# Altium footprint library Transformator.PcbLib: 59 footprints (part 3 of 4)
Each footprint in its own frame and in the unit in brackets; x right, y up, seen from the top. Pads: shape width x height; smd on the part's side, far side on the other; paste and mask are expansions set on the pad; w line width, h text height; cw(c..) or ccw(c..) is an arc to the next point about the centre after c.
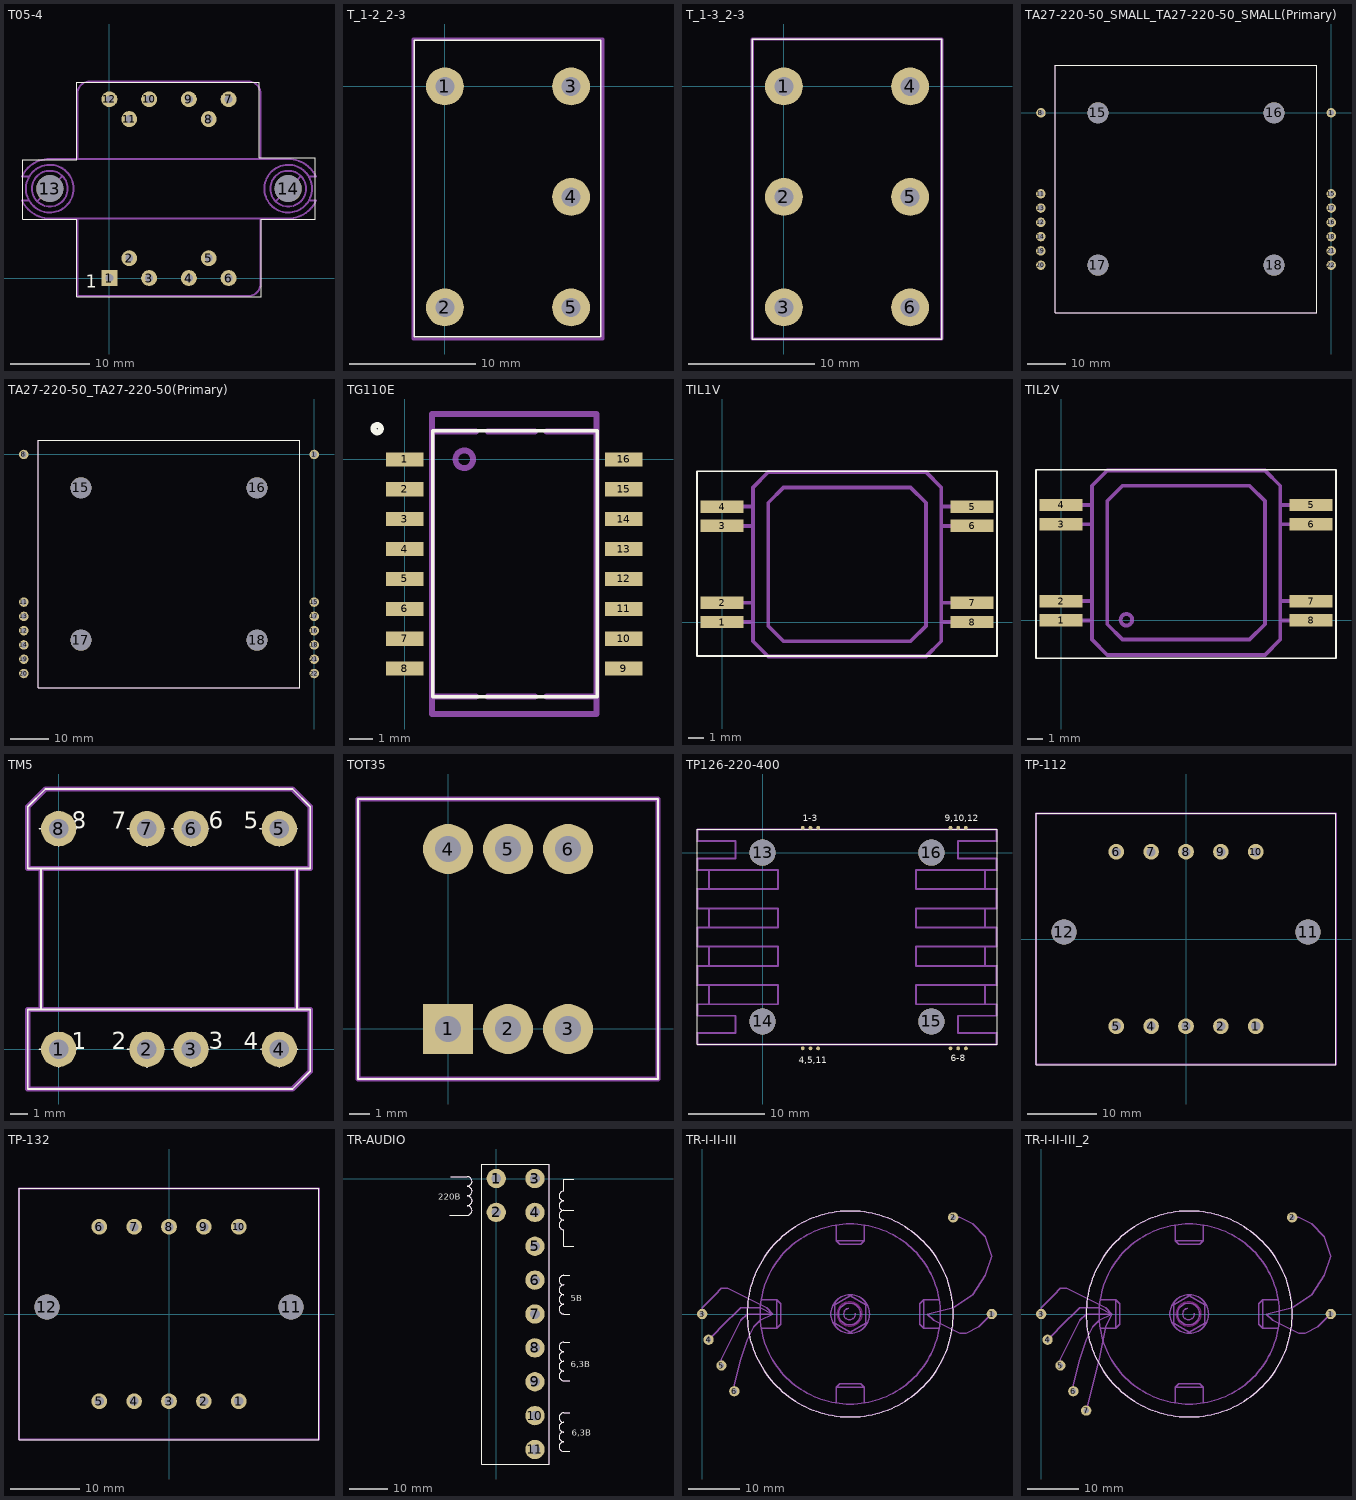
[diagram p2: the footprints below, top view; thin cyan lines are the x and y axes]

## T05-4 [mm]
pads (14):
  rect 2x2 hole 1: 1(0,0)
  round 2 hole 1: 2(2.5,2.5) 3(5,0) 4(10,0) 5(12.5,2.5) 6(15,0) 7(15,22.5) 8(12.5,20) 9(10,22.5) 10(5,22.5) 11(2.5,20) 12(0,22.5)
  round 3.4 hole 3.4 unplated: 13(-7.5,11.25) 14(22.5,11.25)
Top Overlay:
  lines w0.1: -10.88,7.41 -4.13,7.41 -4.13,-2.34 19.12,-2.34 19.12,7.41 25.87,7.41 25.87,15.16 18.87,15.16 18.87,24.66 -4.13,24.66 -4.13,14.91 -10.88,14.91 -10.88,7.41
  text "1" at -3,-1.25 h1.59
Mechanical 1:
  circle w0.25: c22.5,11.25 r3
  circle w0.25: c-7.5,11.25 r3
  circle w0.25: c22.5,11.25 r2.25
  circle w0.25: c-7.5,11.25 r2.25
  lines w0.25: -11.001,12.748 cw(c-7.52,11.184) -7.5,15 ; -11,12.75 -10.125,12.75 ; -10.125,9.75 -11,9.75 ccw(c-7.455,11.417) -7.503,7.5 ; -9,9.75 -7.5,11.25 -6,12.75 ; -7.5,7.5 22.5,7.5 ; -7.5,15 22.5,15 ; -4,7.5 -4,-2.25 17.5,-2.25 ccw(c17.5,-0.75) 19,-0.75 19,7.5 ; -4,15 -4,23.25 cw(c-2.5,23.25) -2.5,24.75 17.5,24.75 ; 19,15 19,23.25 ; 21,9.75 22.5,11.25 24,12.75 ; 22.5,7.5 ccw(c22.52,11.316) 26.001,9.752 ; 22.503,15 cw(c22.455,11.083) 26,12.751 ; 25.125,9.75 26,9.75 ; 25.125,12.75 26,12.75 ; 17.5,24.75 cw(c17.5,23.25) 19,23.25 ; 17.5,24.75 cw(c17.5,23.25) 19,23.25
  text "1" at -2.88,-1.54 h1.59

## T_1-2_2-3 [mm]
pads (5):
  round 3 hole 1.5: 1(0,0) 2(0,-17.5) 3(10,0) 4(10,-8.75) 5(10,-17.5)
Top Overlay:
  lines w0.1: -2.42,-19.83 -2.42,3.67 12.33,3.67 12.33,-19.83 -2.17,-19.83 -2.42,-19.83
Mechanical 1:
  lines w0.25: -2.5,-20 12.5,-20 12.5,3.75 -2.5,3.75 -2.5,-20
  text "2-1" at 5,-0.75 h0.94
  text "2-2" at 4.75,-9.75 h0.94
  text "2-3" at 4.75,-18.5 h0.94
  text "1-1" at -1.25,-3.75 h0.94
  text "1-2" at -1.25,-15 h0.94

## T_1-3_2-3 [mm]
pads (6):
  round 3 hole 1.5: 1(0,0) 2(0,-8.75) 3(0,-17.5) 4(10,0) 5(10,-8.75) 6(10,-17.5)
Top Overlay:
  lines w0.1: -2.5,-20 12.5,-20 12.5,3.75 -2.5,3.75 -2.5,-20
Mechanical 1:
  lines w0.25: -2.5,-20 12.5,-20 12.5,3.75 -2.5,3.75 -2.5,-20
  text "1-2" at -6.25,-10 h0.94
  text "2-1" at 5,-0.75 h0.94
  text "2-2" at 4.75,-9.75 h0.94
  text "2-3" at 4.75,-18.5 h0.94
  text "1-1" at -1.25,-3.75 h0.94
  text "1-3" at -1.25,-15 h0.94

## TA27-220-50_SMALL_TA27-220-50_SMALL(Primary) [mm]
pads (18):
  round 2.5 hole 1.5: 1(0,0) 8(-76.2,0) 11(-76.25,-21.25) 12(-76.25,-28.75) 13(-76.25,-25) 14(-76.25,-32.5) 15(0,-21.25) 16(0,-28.75) 17(0,-25) 18(0,-32.5) 19(-76.25,-36.25) 20(-76.25,-40) 21(0,-36.25) 22(0,-40)
  round 5.5 hole 5.5 unplated: 15(-61.25,0) 16(-15,0) 17(-61.25,-40) 18(-15,-40)
Top Overlay:
  lines w0.1: -72.5,-52.5 -3.75,-52.5 -3.75,12.5 -72.5,12.5 -72.5,-52.5
Mechanical 1:
  lines w0.25: -72.5,-52.5 -3.75,-52.5 -3.75,12.5 -72.5,12.5 -72.5,-52.5

## TA27-220-50_TA27-220-50(Primary) [mm]
pads (18):
  round 2.5 hole 1.5: 1(0,0) 8(-76.25,0) 11(-76.25,-38.75) 12(-76.25,-46.25) 13(-76.25,-42.5) 14(-76.25,-50) 15(0,-38.75) 16(0,-46.25) 17(0,-42.5) 18(0,-50) 19(-76.25,-53.75) 20(-76.25,-57.5) 21(0,-53.75) 22(0,-57.5)
  round 5.5 hole 5.5 unplated: 15(-61.25,-8.75) 16(-15,-8.75) 17(-61.25,-48.75) 18(-15,-48.75)
Top Overlay:
  lines w0.1: -72.5,-61.25 -3.75,-61.25 -3.75,3.75 -72.5,3.75 -72.5,-61.25
Mechanical 1:
  lines w0.25: -72.5,-61.25 -3.75,-61.25 -3.75,3.75 -72.5,3.75 -72.5,-61.25

## TG110E [mm]
pads (16):
  rect 1.6x0.6 smd: 1(0,0) 2(0,-1.27) 3(0,-2.54) 4(0,-3.81) 5(0,-5.08) 6(0,-6.35) 7(0,-7.62) 8(0,-8.89) 9(9.3,-8.89) 10(9.3,-7.62) 11(9.3,-6.35) 12(9.3,-5.08) 13(9.3,-3.81) 14(9.3,-2.54) 15(9.3,-1.27) 16(9.3,0)
Top Overlay:
  circle w0.25: c-1.175,1.305 r0.156
  lines w0.15: 1.18,-10.08 8.18,-10.08 8.18,1.22 1.18,1.22 1.18,-10.08
Mechanical 1:
  circle w0.25: c2.525,0.005 r0.375
  lines w0.25: 1.15,-10.07 3.025,-10.07 ; 1.15,1.18 3.025,1.18 ; 3.525,-10.07 5.525,-10.07 ; 3.525,1.18 5.525,1.18 ; 6.025,-10.07 8.15,-10.07 ; 6.025,1.18 8.15,1.18 ; 1.15,-10.82 8.15,-10.82 8.15,1.93 1.15,1.93 1.15,-10.82

## TIL1V [mm]
pads (8):
  rect 2.8x0.8 smd: 1(0,0) 2(0,1.25) 3(0,6.25) 4(0,7.5) 5(16.25,7.5) 6(16.25,6.25) 7(16.25,1.25) 8(16.25,0)
Top Overlay:
  lines w0.1: -1.63,-2.21 17.87,-2.21 17.87,9.79 -1.63,9.79 -1.63,5.54 -1.63,-2.21
Mechanical 1:
  lines w0.25: 0,0 2,0 ; 0,1.25 2,1.25 ; 0,6.25 2,6.25 ; 0,7.5 2,7.5 ; 14.25,0 16.25,0 ; 14.25,1.25 16.25,1.25 ; 14.25,6.25 16.25,6.25 ; 14.25,7.5 16.25,7.5 ; 2,-1.25 2,8.75 3,9.75 13.25,9.75 14.25,8.75 14.25,-1.25 13.25,-2.25 3,-2.25 2,-1.25 ; 3,-0.25 3,7.75 4,8.75 12.25,8.75 13.25,7.75 13.25,-0.25 12.25,-1.25 4,-1.25 3,-0.25

## TIL2V [mm]
pads (8):
  rect 2.8x0.8 smd: 1(0,0) 2(0,1.25) 3(0,6.25) 4(0,7.5) 5(16.25,7.5) 6(16.25,6.25) 7(16.25,1.25) 8(16.25,0)
Top Overlay:
  lines w0.1: -1.63,-2.46 17.87,-2.46 17.87,9.79 -1.63,9.79 -1.63,-2.46
Mechanical 1:
  lines w0.25: 0,0 2,0 ; 0,1.25 2,1.25 ; 0,6.25 2,6.25 ; 0,7.5 2,7.5 ; 14.25,0 16.25,0 ; 14.25,1.25 16.25,1.25 ; 14.25,6.25 16.25,6.25 ; 14.25,7.5 16.25,7.5 ; 2,-1.25 2,8.75 3,9.75 13.25,9.75 14.25,8.75 14.25,-1.25 13.25,-2.25 3,-2.25 2,-1.25 ; 3,-0.25 3,7.75 4,8.75 12.25,8.75 13.25,7.75 13.25,-0.25 12.25,-1.25 4,-1.25 3,-0.25 ; 3.87,0.04 cw(c4.245,0.04) 4.62,0.04 cw(c4.245,0.04) 3.87,0.04

## TM5 [mm]
pads (8):
  round 2 hole 1.1: 1(0,0) 2(5,0) 3(7.5,0) 4(12.5,0) 5(12.5,12.5) 6(7.5,12.5) 7(5,12.5) 8(0,12.5)
Top Overlay:
  lines w0.1: -1.1,0 1,0 ; -1.1,12.5 1,12.5 ; -1,2.25 -1,10.25 ; 0,-1 0,0.9 ; 0,11.5 0,13.4 ; 3.9,0 6,0 ; 3.9,12.5 6,12.5 ; 5,-1 5,0.9 ; 5,11.5 5,13.4 ; 6.4,0 8.5,0 ; 6.4,12.5 8.5,12.5 ; 7.5,-1 7.5,0.9 ; 7.5,11.5 7.5,13.4 ; 11.4,12.5 13.5,12.5 ; 11.45,0 13.55,0 ; 12.5,-1 12.5,0.9 ; 12.5,11.5 12.5,13.4 ; 13.5,2.25 13.5,10.25 ; -1.75,-2.25 13.25,-2.25 14.25,-1.25 14.25,2.25 -1.75,2.25 -1.75,-2.25 ; -1.75,10.25 14.25,10.25 14.25,13.75 13.25,14.75 -0.75,14.75 -1.75,13.75 -1.75,10.25
  text "5" at 10.5,12.5 h0.95
  text "6" at 8.5,12.5 h0.95
  text "8" at 0.75,12.5 h0.95
  text "7" at 3,12.5 h0.95
  text "4" at 10.5,0 h0.95
  text "3" at 8.5,0 h0.95
  text "2" at 3,0 h0.95
  text "1" at 0.75,0 h0.95
Mechanical 1:
  lines w0.3: -1,2.25 -1,10.25 ; 13.5,2.25 13.5,10.25 ; -1.75,-2.25 13.25,-2.25 14.25,-1.25 14.25,2.25 -1.75,2.25 -1.75,-2.25 ; -1.75,10.25 14.25,10.25 14.25,13.75 13.25,14.75 -0.75,14.75 -1.75,13.75 -1.75,10.25
  text "6" at 8.5,12.5 h0.95
  text "5" at 10.5,12.5 h0.95
  text "8" at 0.75,12.5 h0.95
  text "7" at 3,12.5 h0.95
  text "4" at 10.5,0 h0.95
  text "3" at 8.5,0 h0.95
  text "2" at 3,0 h0.95
  text "1" at 0.75,0 h0.95

## TOT35 [mm]
pads (6):
  rect 2.5x2.5 hole 1.3: 1(0,0)
  round 2.5 hole 1.3: 2(3,0) 3(6,0) 4(0,9) 5(3,9) 6(6,9)
Top Overlay:
  lines w0.1: -4.5,-2.5 10.5,-2.5 10.5,11.5 -4.5,11.5 -4.5,-2.5
Mechanical 1:
  lines w0.25: -4.5,-2.5 10.5,-2.5 10.5,11.5 -4.5,11.5 -4.5,-2.5

## TP126-220-400 [mm]
pads (16):
  round 0.5 smd: 1(5.25,3.25) 2(6.25,3.25) 3(7.25,3.25) 4(5.25,-25.5) 5(6.25,-25.5) 6(24.5,-25.5) 7(25.5,-25.5) 8(26.5,-25.5) 9(24.5,3.25) 10(25.5,3.25) 11(7.25,-25.5) 12(26.5,3.25)
  round 3.4 hole 3.4 unplated: 13(0,0) 14(0,-22) 15(22,-22) 16(22,0)
Top Overlay:
  lines w0.15: -8.54,3.04 -8.54,-24.96 30.56,-24.96 30.56,3.04 -8.44,3.04
  text "9,10,12" at 23.75,3.75 h1.5
  text "6-8" at 24.5,-27.5 h1.5
  text "1-3" at 5.25,3.75 h1.5
  text "4,5,11" at 4.75,-27.75 h1.5
Mechanical 1:
  lines w0.25: -7,-19.75 -7,-17.25 ; -7,-14.75 -7,-12.25 ; -7,-9.75 -7,-7.25 ; -7,-4.75 -7,-2.25 ; 29,-19.75 29,-17.25 ; 29,-14.75 29,-12.25 ; 29,-9.75 29,-7.25 ; 29,-4.75 29,-2.25 ; -8.5,-25 30.5,-25 30.5,-23.5 25.5,-23.5 25.5,-21.25 30.5,-21.25 30.5,-19.75 20,-19.75 20,-17.25 30.5,-17.25 30.5,-14.75 20,-14.75 20,-12.25 30.5,-12.25 30.5,-9.75 20,-9.75 20,-7.25 30.5,-7.25 30.5,-4.75 20,-4.75 20,-2.25 30.5,-2.25 30.5,-0.75 25.5,-0.75 25.5,1.5 30.5,1.5 30.5,3 -8.5,3 -8.5,1.5 -3.5,1.5 -3.5,-0.75 -8.5,-0.75 -8.5,-2.25 2,-2.25 2,-4.75 -8.5,-4.75 -8.5,-7.25 2,-7.25 2,-9.75 -8.5,-9.75 -8.5,-12.25 2,-12.25 2,-14.75 -8.5,-14.75 -8.5,-17.25 2,-17.25 2,-19.75 -8.5,-19.75 -8.5,-21.25 -3.5,-21.25 -3.5,-23.5 -8.5,-23.5 -8.5,-25
  text "9,10,12" at 23.75,3.75 h1.5
  text "6-8" at 24.5,-27.5 h1.5
  text "1-3" at 5.25,3.75 h1.5
  text "4,5,11" at 4.75,-27.75 h1.5

## TP-112 [mm]
pads (12):
  round 2.25 hole 1.3: 1(10,-12.5) 2(5,-12.5) 3(0,-12.5) 4(-5,-12.5) 5(-10,-12.5) 6(-10,12.5) 7(-5,12.5) 8(0,12.5) 9(5,12.5) 10(10,12.5)
  round 3.6 hole 3.6 unplated: 11(17.5,1) 12(-17.5,1)
Top Overlay:
  lines w0.1: -21.5,-18 21.5,-18 21.5,18 -21.5,18 -21.5,-18
Mechanical 1:
  lines w0.25: -21.5,-18 21.5,-18 21.5,18 -21.5,18 -21.5,-18

## TP-132 [mm]
pads (12):
  round 2.25 hole 1.3: 1(10,-12.5) 2(5,-12.5) 3(0,-12.5) 4(-5,-12.5) 5(-10,-12.5) 6(-10,12.5) 7(-5,12.5) 8(0,12.5) 9(5,12.5) 10(10,12.5)
  round 3.6 hole 3.6 unplated: 11(17.5,1) 12(-17.5,1)
Top Overlay:
  lines w0.1: -21.5,-18 21.5,-18 21.5,18 -21.5,18 -21.5,-18
Mechanical 1:
  lines w0.25: -21.5,-18 21.5,-18 21.5,18 -21.5,18 -21.5,-18

## TR-AUDIO [mm]
pads (11):
  round 5 hole 2.5: 1(0,0) 2(0,-8.75) 3(10,0) 4(10,-8.75) 5(10,-17.5) 6(10,-26.25) 7(10,-35) 8(10,-43.75) 9(10,-52.5) 10(10,-61.25) 11(10,-70)
Top Overlay:
  lines w0.1: -12,-9.5 -7.5,-9.5 ccw(c-7.5,-8.25) -7.5,-7 ccw(c-7.5,-5.75) -7.5,-4.5 ccw(c-7.5,-3.25) -7.5,-2 ccw(c-7.5,-0.75) -7.5,0.5 -11.75,0.5 ; 19,-70.5 17.5,-70.5 cw(c17.5,-69.25) 17.5,-68 cw(c17.5,-66.75) 17.5,-65.5 cw(c17.5,-64.25) 17.5,-63 cw(c17.5,-61.75) 17.5,-60.5 19,-60.5 ; 19,-52.25 17.5,-52.25 cw(c17.5,-51) 17.5,-49.75 cw(c17.5,-48.5) 17.5,-47.25 cw(c17.5,-46) 17.5,-44.75 cw(c17.5,-43.5) 17.5,-42.25 19,-42.25 ; 19,-35 17.5,-35 cw(c17.5,-33.75) 17.5,-32.5 cw(c17.5,-31.25) 17.5,-30 cw(c17.5,-28.75) 17.5,-27.5 cw(c17.5,-26.25) 17.5,-25 19,-25 ; 20,-17.5 17.5,-17.5 17.5,-13.25 cw(c17.5,-12) 17.5,-10.75 cw(c17.5,-9.5) 17.5,-8.25 ; 20,-8.25 17.5,-8.25 ; 20,-0.25 17.5,-0.25 17.5,-3.25 ccw(c17.5,-4.5) 17.5,-5.75 ccw(c17.5,-7) 17.5,-8.25 ; -3.75,-73.75 13.75,-73.75 13.75,3.75 -3.75,3.75 -3.75,-73.75
  text "6,3B" at 19.25,-48.75 h1.59
  text "6,3B" at 19.5,-66.5 h1.59
  text "5B" at 19.25,-31.75 h1.59
  text "220B" at -15,-5.5 h1.59
Mechanical 1:
  lines w0.25: -12,-9.5 -7.5,-9.5 ccw(c-7.5,-8.25) -7.5,-7 ccw(c-7.5,-5.75) -7.5,-4.5 ccw(c-7.5,-3.25) -7.5,-2 ccw(c-7.5,-0.75) -7.5,0.5 -11.75,0.5 ; 19,-70.5 17.5,-70.5 cw(c17.5,-69.25) 17.5,-68 cw(c17.5,-66.75) 17.5,-65.5 cw(c17.5,-64.25) 17.5,-63 cw(c17.5,-61.75) 17.5,-60.5 19,-60.5 ; 19,-52.25 17.5,-52.25 cw(c17.5,-51) 17.5,-49.75 cw(c17.5,-48.5) 17.5,-47.25 cw(c17.5,-46) 17.5,-44.75 cw(c17.5,-43.5) 17.5,-42.25 19,-42.25 ; 19,-35 17.5,-35 cw(c17.5,-33.75) 17.5,-32.5 cw(c17.5,-31.25) 17.5,-30 cw(c17.5,-28.75) 17.5,-27.5 cw(c17.5,-26.25) 17.5,-25 19,-25 ; 20,-17.5 17.5,-17.5 17.5,-13.25 cw(c17.5,-12) 17.5,-10.75 cw(c17.5,-9.5) 17.5,-8.25 ; 20,-8.25 17.5,-8.25 ; 20,-0.25 17.5,-0.25 17.5,-3.25 ccw(c17.5,-4.5) 17.5,-5.75 ccw(c17.5,-7) 17.5,-8.25 ; -3.75,-73.75 13.75,-73.75 13.75,3.75 -3.75,3.75 -3.75,-73.75
  text "6,3B" at 19.25,-48.75 h1.59
  text "6,3B" at 19.5,-66.5 h1.59
  text "5B" at 19.25,-31.75 h1.59
  text "220B" at -15,-5.5 h1.59

## TR-I-II-III [mm]
pads (6):
  round 2 hole 1: 1(56.25,0) 2(48.75,18.75) 3(0,0) 4(1.25,-5) 5(3.75,-10) 6(6.25,-15)
Top Overlay:
  lines w0.1: 8.75,0 cw(c28.75,0) 48.75,0 cw(c28.75,0) 8.75,0
Keep-Out Layer:
  lines w0.3: 26.25,0 cw(c28.625,0) 31,0 cw(c28.625,0) 26.25,0
Mechanical 1:
  lines w0.25: 0,0 0,1.25 1.25,2.5 2.5,3.75 3.75,5 5,5 7.5,3.75 10,2.5 12.5,1.25 13.75,0 ; 1.25,-5 5,-1.25 6.25,0 7.5,1.25 10,1.25 11.25,1.25 13.75,0 ; 3.75,-10 3.75,-8.75 5,-6.25 6.25,-3.75 7.5,-1.25 8.75,0 ; 6.25,-15 6.25,-13.75 7.5,-8.75 8.75,-5 10,-2.5 11.25,-1.25 13.75,0 ; 11.5,-2.75 14.5,-2.75 ; 11.5,2.75 14.5,2.75 ; 26,-17.25 26,-14.25 ; 26,17.25 26,14.25 ; 28.43,1.108 ccw(c28.625,0) 27.5,0 ccw(c28.625,0) 29.742,0.137 ; 31.5,-17.25 31.5,-14.25 ; 31.5,17.25 31.5,14.25 ; 46,-2.75 43,-2.75 ; 46,2.75 43,2.75 ; 48.75,18.75 50,18.75 52.5,17.5 55,15 56.25,11.25 55,7.5 52.5,3.75 48.75,1.25 43.75,0 45,-1.25 47.5,-2.5 50,-3.75 51.25,-3.75 53.75,-2.5 55,-1.25 56.25,0 ; 8.75,0 cw(c28.75,0) 48.75,0 cw(c28.75,0) 8.75,0 ; 8.75,0 11.25,0 ; 11.25,0 cw(c28.75,0) 46.25,0 cw(c28.75,0) 11.25,0 ; 11.25,0 13.75,0 ; 14.5,-2.75 14.5,0 14.5,0.75 14.5,2.75 ; 14.5,-2.75 15.25,-2 15.25,2 14.5,2.75 ; 26,-14.25 28.75,-14.25 29.5,-14.25 31.5,-14.25 ; 26,-14.25 26.75,-13.5 30.75,-13.5 31.5,-14.25 ; 26,14.25 28.75,14.25 31.5,14.25 ; 26,14.25 26.75,13.5 30.75,13.5 31.5,14.25 ; 43,-2.75 43,0 43,0.75 43,2.75 ; 43,-2.75 42.25,-2 42.25,2 43,2.75 ; 25,0 cw(c28.75,0) 32.5,0 cw(c28.75,0) 25,0 ; 25.75,-1.75 28.75,-3.5 31.75,-1.75 31.75,1.75 28.75,3.5 25.75,1.75 25.75,-1.75 ; 26.5,0 cw(c28.625,0) 30.75,0 cw(c28.625,0) 26.5,0

## TR-I-II-III_2 [mm]
pads (7):
  round 2 hole 1: 1(56.25,0) 2(48.75,18.75) 3(0,0) 4(1.25,-5) 5(3.75,-10) 6(6.25,-15) 7(8.75,-18.75)
Top Overlay:
  lines w0.1: 8.75,0 cw(c28.75,0) 48.75,0 cw(c28.75,0) 8.75,0
Keep-Out Layer:
  lines w0.3: 26.25,0 ccw(c28.625,0) 31,0 ccw(c28.625,0) 26.25,0
Mechanical 1:
  lines w0.25: 0,0 0,1.25 1.25,2.5 2.5,3.75 3.75,5 5,5 7.5,3.75 10,2.5 12.5,1.25 13.75,0 ; 1.25,-5 5,-1.25 6.25,0 7.5,1.25 10,1.25 11.25,1.25 13.75,0 ; 3.75,-10 3.75,-8.75 5,-6.25 6.25,-3.75 7.5,-1.25 8.75,0 ; 6.25,-15 6.25,-13.75 7.5,-8.75 8.75,-5 10,-2.5 11.25,-1.25 13.75,0 ; 8.75,-18.75 11.25,-8.75 12.5,-2.5 13.75,0 ; 11.5,-2.75 14.5,-2.75 ; 11.5,2.75 14.5,2.75 ; 26,-17.25 26,-14.25 ; 26,17.25 26,14.25 ; 28.43,1.108 ccw(c28.625,0) 27.5,0 ccw(c28.625,0) 29.742,0.137 ; 31.5,-17.25 31.5,-14.25 ; 31.5,17.25 31.5,14.25 ; 46,-2.75 43,-2.75 ; 46,2.75 43,2.75 ; 48.75,18.75 50,18.75 52.5,17.5 55,15 56.25,11.25 55,7.5 52.5,3.75 48.75,1.25 43.75,0 45,-1.25 47.5,-2.5 50,-3.75 51.25,-3.75 53.75,-2.5 55,-1.25 56.25,0 ; 8.75,0 cw(c28.75,0) 48.75,0 cw(c28.75,0) 8.75,0 ; 8.75,0 11.25,0 ; 11.25,0 cw(c28.75,0) 46.25,0 cw(c28.75,0) 11.25,0 ; 11.25,0 13.75,0 ; 14.5,-2.75 14.5,0 14.5,0.75 14.5,2.75 ; 14.5,-2.75 15.25,-2 15.25,2 14.5,2.75 ; 26,-14.25 28.75,-14.25 29.5,-14.25 31.5,-14.25 ; 26,-14.25 26.75,-13.5 30.75,-13.5 31.5,-14.25 ; 26,14.25 28.75,14.25 31.5,14.25 ; 26,14.25 26.75,13.5 30.75,13.5 31.5,14.25 ; 43,-2.75 43,0 43,0.75 43,2.75 ; 43,-2.75 42.25,-2 42.25,2 43,2.75 ; 25,0 cw(c28.75,0) 32.5,0 cw(c28.75,0) 25,0 ; 25.75,-1.75 28.75,-3.5 31.75,-1.75 31.75,1.75 28.75,3.5 25.75,1.75 25.75,-1.75 ; 26.5,0 cw(c28.625,0) 30.75,0 cw(c28.625,0) 26.5,0